# EAGLE library part ATWIN1500_BREAKOUT (library ATWINC1500_BREAKOUT)
ATWINC1500 Breakout Board Board From AdaFruit Creator: Josh Mucinski Version: V1
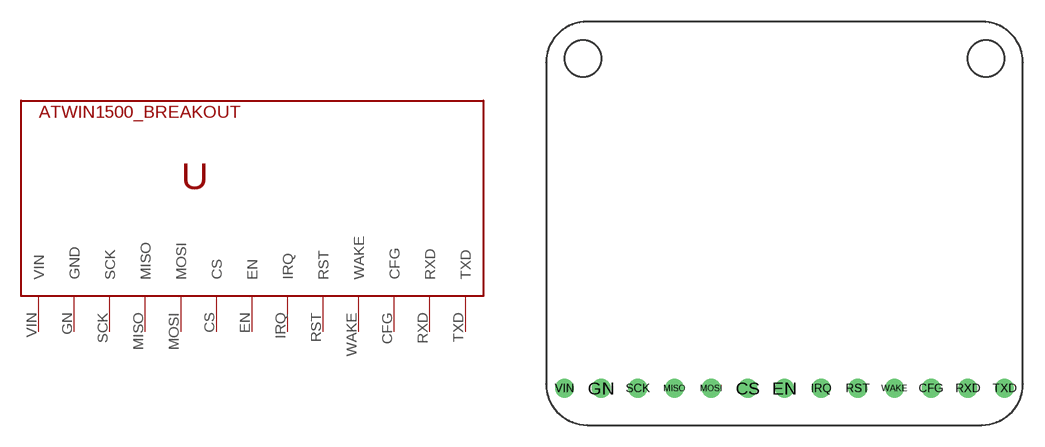
[diagram p0: symbol with the pads of ATWINC1500_BREAKOUT; footprint ATWINC1500_BREAKOUT]

Designator prefix -

## ATWIN1500_BREAKOUT  [ATWINC1500_BREAKOUT]
CFG  CFG
CS  CS
EN  EN
GN  GND
IRQ  IRQ
MISO  MISO
MOSI  MOSI
RST  RST
RXD  RXD
SCK  SCK
TXD  TXD
VIN  VIN
WAKE  WAKE

## Footprint ATWINC1500_BREAKOUT (pad centres in mm)
drill 0.8: CFG 26.67,2.54; CS 13.97,2.54; EN 16.51,2.54; GN 3.81,2.54; IRQ 19.05,2.54; MISO 8.89,2.54; MOSI 11.43,2.54; RST 21.59,2.54; RXD 29.21,2.54; SCK 6.35,2.54; TXD 31.75,2.54; VIN 1.27,2.54; WAKE 24.13,2.54